# Altium integrated library LIBRAIRIE_PROJETS.IntLib: 23 symbols
Pins are listed as number, name and electrical type; pins without a type are passive.

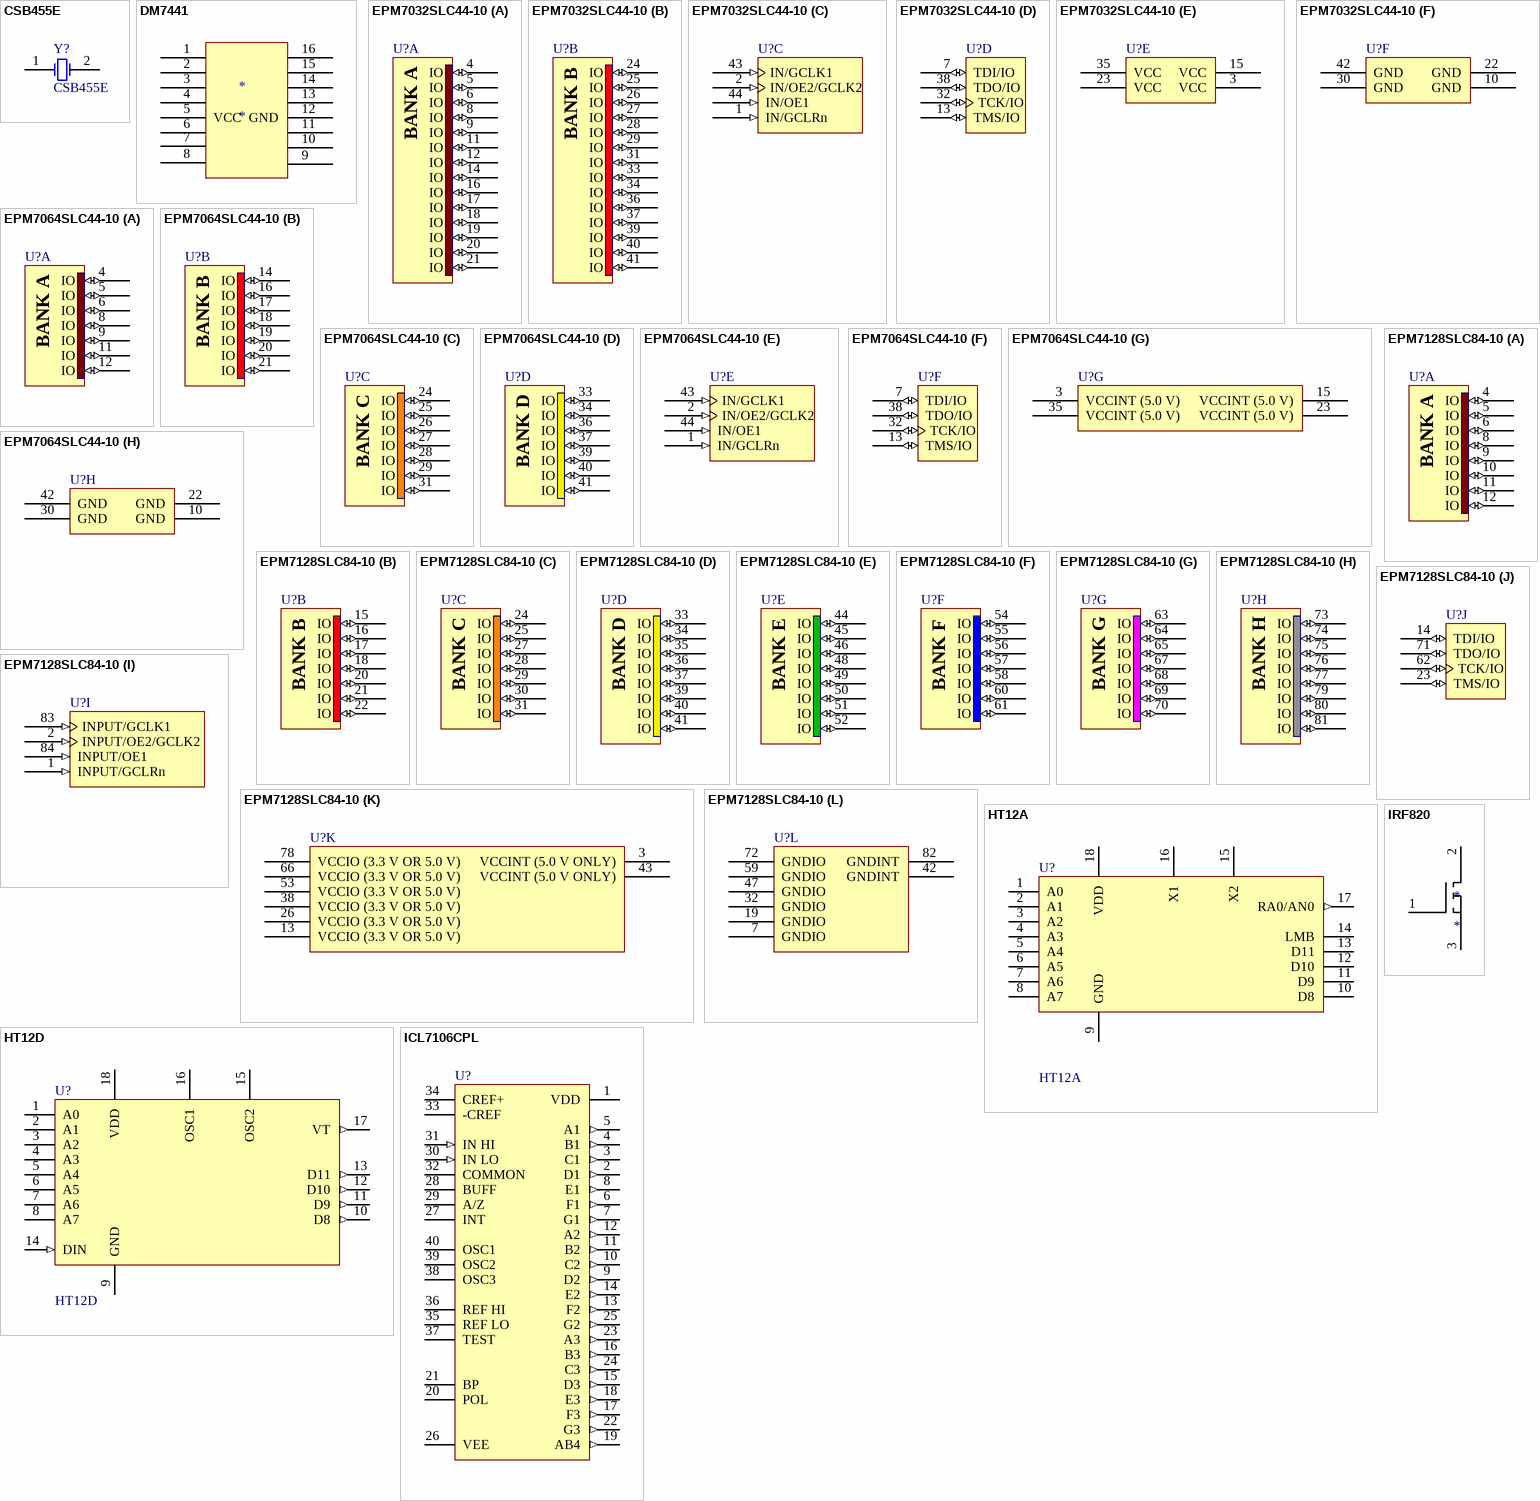
[diagram p0: symbols CSB455E to IRF820]

## CSB455E
designator Y?
Crystal Oscillator; Published: 8-Jun-2000; LatestRevisionDate: 17-Jul-2002; LatestRevisionNote: Re-released for DXP Platform.; PackageReference: R38; Publisher: Altium Limited
footprint CAPA2
simulation model XTAL (Spice Subcircuit)
pins: 1 OSC1, 2 OSC2

## DM7441
designator *
Driver Lamp NIXIES
footprint DIP16
pins: 1, 2, 3, 4, 5 VCC, 6, 7, 8, 9, 10, 11, 12 GND, 13, 14, 15, 16

## EPM7032SLC44-10
designator U?
MAX 7000S 5V In-System Programmable CPLD, 32 Macrocells, 44-Pin PLCC, Speed Grade 10, Commercial Grade; Published: 24-Nov-2000; LatestRevisionDate: 13-Apr-2006; LatestRevisionNote: IPC-7351 Footprint Added.; DatasheetVersion: ver6.7, Sep-2005; PackageVersion: ver14.3, Jul-2006; PackageReference: PLCC44; Publisher: Altium Limited; PackageDescription: 44-Pin Plastic J-Lead Chip Carrier (PLCC44); Code_JEDEC: MS-018-AC; Code_IPC: PLCC-44; ComponentLink1Description: Manufacturer Link; ComponentLink1URL: http://www.altera.com/products/devices/max7k/m7k-index.html; ComponentLink2Description: Datasheet; ComponentLink2URL: http://www.altera.com/literature/ds/m7000.pdf; ComponentLink3Description: Packaging Specification; ComponentLink3URL: http://www.altera.com/literature/ds/dspkg.pdf
3D model EPM7032S-PLCC44 (44-Pin Plastic J-Lead Chip Carrier (PLCC44))
signal-integrity model 7k (MAX 7000S)
footprint PLCC44
part A pins: 4 IO (io), 5 IO (io), 6 IO (io), 8 IO (io), 9 IO (io), 11 IO (io), 12 IO (io), 14 IO (io), 16 IO (io), 17 IO (io), 18 IO (io), 19 IO (io), 20 IO (io), 21 IO (io)
part B pins: 24 IO (io), 25 IO (io), 26 IO (io), 27 IO (io), 28 IO (io), 29 IO (io), 31 IO (io), 33 IO (io), 34 IO (io), 36 IO (io), 37 IO (io), 39 IO (io), 40 IO (io), 41 IO (io)
part C pins: 1 IN/GCLRn (in), 2 IN/OE2/GCLK2 (in), 43 IN/GCLK1 (in), 44 IN/OE1 (in)
part D pins: 7 TDI/IO (io), 13 TMS/IO (io), 32 TCK/IO (io), 38 TDO/IO (io)
part E pins: 3 VCC (power), 15 VCC (power), 23 VCC (power), 35 VCC (power)
part F pins: 10 GND (power), 22 GND (power), 30 GND (power), 42 GND (power)
part A text: BANK A
part B text: BANK B

## EPM7064SLC44-10
designator U?
MAX 7000S 5V In-System Programmable CPLD, 64 Macrocells, 44-Pin PLCC, Speed Grade 10, Commercial Grade; Published: 24-Nov-2000; LatestRevisionDate: 13-Apr-2006; LatestRevisionNote: IPC-7351 Footprint Added.; DatasheetVersion: ver6.7, Sep-2005; PackageVersion: ver14.3, Jul-2006; PackageReference: PLCC44; Publisher: Altium Limited; PackageDescription: 44-Pin Plastic J-Lead Chip Carrier (PLCC44); Code_JEDEC: MS-018-AC; Code_IPC: PLCC-44; ComponentLink1Description: Manufacturer Link; ComponentLink1URL: http://www.altera.com/products/devices/max7k/m7k-index.html; ComponentLink2Description: Datasheet; ComponentLink2URL: http://www.altera.com/literature/ds/m7000.pdf; ComponentLink3Description: Packaging Specification; ComponentLink3URL: http://www.altera.com/literature/ds/dspkg.pdf
signal-integrity model 7k (MAX 7000S)
footprint PLCC44
3D model EPM7064-PLCC44 (PCB3D Model)
part A pins: 4 IO (io), 5 IO (io), 6 IO (io), 8 IO (io), 9 IO (io), 11 IO (io), 12 IO (io)
part B pins: 14 IO (io), 16 IO (io), 17 IO (io), 18 IO (io), 19 IO (io), 20 IO (io), 21 IO (io)
part C pins: 24 IO (io), 25 IO (io), 26 IO (io), 27 IO (io), 28 IO (io), 29 IO (io), 31 IO (io)
part D pins: 33 IO (io), 34 IO (io), 36 IO (io), 37 IO (io), 39 IO (io), 40 IO (io), 41 IO (io)
part E pins: 1 IN/GCLRn (in), 2 IN/OE2/GCLK2 (in), 43 IN/GCLK1 (in), 44 IN/OE1 (in)
part F pins: 7 TDI/IO (io), 13 TMS/IO (io), 32 TCK/IO (io), 38 TDO/IO (io)
part G pins: 3 VCCINT (5.0 V) (power), 15 VCCINT (5.0 V) (power), 23 VCCINT (5.0 V) (power), 35 VCCINT (5.0 V) (power)
part H pins: 10 GND (power), 22 GND (power), 30 GND (power), 42 GND (power)
part A text: BANK A
part B text: BANK B
part C text: BANK C
part D text: BANK D

## EPM7128SLC84-10
designator U?
MAX 7000S 5V In-System Programmable CPLD, 128 Macrocells, 84-Pin PLCC, Speed Grade 10, Commercial Grade; Published: 24-Nov-2000; LatestRevisionDate: 13-Apr-2006; LatestRevisionNote: IPC-7351 Footprint Added.; DatasheetVersion: ver6.7, Sep-2005; PackageVersion: ver14.3, Jul-2006; PackageReference: PLCC84; Publisher: Altium Limited; PackageDescription: 84-Pin Plastic J-Lead Chip Carrier (PLCC84); Code_JEDEC: MS-018-AF; Code_IPC: PLCC-84; ComponentLink1Description: Manufacturer Link; ComponentLink1URL: http://www.altera.com/products/devices/max7k/m7k-index.html; ComponentLink2Description: Datasheet; ComponentLink2URL: http://www.altera.com/literature/ds/m7000.pdf; ComponentLink3Description: Packaging Specification; ComponentLink3URL: http://www.altera.com/literature/ds/dspkg.pdf
3D model EPM7128S-PLCC84 (84-Pin Plastic J-Lead Chip Carrier (PLCC84))
signal-integrity model 7k (MAX 7000S)
footprint PLCC84
part A pins: 4 IO (io), 5 IO (io), 6 IO (io), 8 IO (io), 9 IO (io), 10 IO (io), 11 IO (io), 12 IO (io)
part B pins: 15 IO (io), 16 IO (io), 17 IO (io), 18 IO (io), 20 IO (io), 21 IO (io), 22 IO (io)
part C pins: 24 IO (io), 25 IO (io), 27 IO (io), 28 IO (io), 29 IO (io), 30 IO (io), 31 IO (io)
part D pins: 33 IO (io), 34 IO (io), 35 IO (io), 36 IO (io), 37 IO (io), 39 IO (io), 40 IO (io), 41 IO (io)
part E pins: 44 IO (io), 45 IO (io), 46 IO (io), 48 IO (io), 49 IO (io), 50 IO (io), 51 IO (io), 52 IO (io)
part F pins: 54 IO (io), 55 IO (io), 56 IO (io), 57 IO (io), 58 IO (io), 60 IO (io), 61 IO (io)
part G pins: 63 IO (io), 64 IO (io), 65 IO (io), 67 IO (io), 68 IO (io), 69 IO (io), 70 IO (io)
part H pins: 73 IO (io), 74 IO (io), 75 IO (io), 76 IO (io), 77 IO (io), 79 IO (io), 80 IO (io), 81 IO (io)
part I pins: 1 INPUT/GCLRn (in), 2 INPUT/OE2/GCLK2 (in), 83 INPUT/GCLK1 (in), 84 INPUT/OE1 (in)
part J pins: 14 TDI/IO (io), 23 TMS/IO (io), 62 TCK/IO (io), 71 TDO/IO (io)
part K pins: 3 VCCINT (5.0 V ONLY) (power), 13 VCCIO (3.3 V OR 5.0 V) (power), 26 VCCIO (3.3 V OR 5.0 V) (power), 38 VCCIO (3.3 V OR 5.0 V) (power), 43 VCCINT (5.0 V ONLY) (power), 53 VCCIO (3.3 V OR 5.0 V) (power), 66 VCCIO (3.3 V OR 5.0 V) (power), 78 VCCIO (3.3 V OR 5.0 V) (power)
part L pins: 7 GNDIO (power), 19 GNDIO (power), 32 GNDIO (power), 42 GNDINT (power), 47 GNDIO (power), 59 GNDIO (power), 72 GNDIO (power), 82 GNDINT (power)
part A text: BANK A
part B text: BANK B
part C text: BANK C
part D text: BANK D
part E text: BANK E
part F text: BANK F
part G text: BANK G
part H text: BANK H

## HT12A
designator U?
Emmetteur Telecommande; Published: 11-Oct-2004; LatestRevisionDate: 04-Mar-2005; LatestRevisionNote: Stylized 3D Model Added.; DatasheetVersion: DS40044B_2004; PackageVersion: 2003; PackageReference: PDIP300-18; Publisher: Altium Limited; PackageDescription: DIP, Plastic; 18 Leads; Row Spacing 7.62 mm; Pitch 2.54 mm; Code_JEDEC: MS-001; ComponentLink1Description: Manufacturer Link; ComponentLink1URL: http://www.microchip.com; ComponentLink2Description: Datasheet; ComponentLink2URL: http://ww1.microchip.com/downloads/en/DeviceDoc/40044b.pdf; ComponentLink3Description: Packaging Specification; ComponentLink3URL: http://ww1.microchip.com/downloads/en/PackagingSpec/00049AD.pdf
footprint DIP18 (CerDIP, Window; 18 Leads; Row Spacing 7.62 mm; Pitch 2.54 mm)
pins: 1 A0, 2 A1, 3 A2, 4 A3, 5 A4 (power), 6 A5, 7 A6, 8 A7, 9 GND (power), 10 D8, 11 D9, 12 D10, 13 D11, 14 LMB (power), 15 X2, 16 X1, 17 RA0/AN0 (out), 18 VDD (power)
1 alternate drawing of the same symbol

## HT12D
designator U?
Recepteur Telecommande; Published: 11-Oct-2004; LatestRevisionDate: 04-Mar-2005; LatestRevisionNote: Stylized 3D Model Added.; DatasheetVersion: DS40044B_2004; PackageVersion: 2003; PackageReference: PDIP300-18; Publisher: Altium Limited; PackageDescription: DIP, Plastic; 18 Leads; Row Spacing 7.62 mm; Pitch 2.54 mm; Code_JEDEC: MS-001; ComponentLink1Description: Manufacturer Link; ComponentLink1URL: http://www.microchip.com; ComponentLink2Description: Datasheet; ComponentLink2URL: http://ww1.microchip.com/downloads/en/DeviceDoc/40044b.pdf; ComponentLink3Description: Packaging Specification; ComponentLink3URL: http://ww1.microchip.com/downloads/en/PackagingSpec/00049AD.pdf
footprint DIP18 (CerDIP, Window; 18 Leads; Row Spacing 7.62 mm; Pitch 2.54 mm)
pins: 1 A0, 2 A1, 3 A2, 4 A3, 5 A4 (power), 6 A5, 7 A6, 8 A7, 9 GND (power), 10 D8 (out), 11 D9 (out), 12 D10 (out), 13 D11 (out), 14 DIN (in), 15 OSC2, 16 OSC1, 17 VT (out), 18 VDD (power)
1 alternate drawing of the same symbol

## ICL7106CPL
designator U?
3½ Digit A/D Converter; Published: 16-Jan-2001; LatestRevisionDate: 06-Jun-2005; LatestRevisionNote: Stylized 3D Model Added.; DatasheetVersion: 1987; PackageVersion: RevA, 21-0044; PackageReference: PL40; Publisher: Altium Limited; PackageDescription: DIP; 40 Leads; Row Spacing 15.24 mm; Pitch 2.54 mm; ComponentLink1Description: Manufacturer Link; ComponentLink1URL: http://www.maxim-ic.com/; ComponentLink2Description: Datasheet; ComponentLink2URL: http://pdfserv.maxim-ic.com/en/ds/ICL7106-ICL7107.pdf
footprint DIP40 (DIP; 40 Leads; Row Spacing 15.24 mm; Pitch 2.54 mm)
3D model JL40A (PCB3D Model)
pins: 1 VDD (power), 2 D1 (out), 3 C1 (out), 4 B1 (out), 5 A1 (out), 6 F1 (out), 7 G1 (out), 8 E1 (out), 9 D2 (out), 10 C2 (out), 11 B2 (out), 12 A2 (out), 13 F2 (out), 14 E2 (out), 15 D3 (out), 16 B3 (out), 17 F3 (out), 18 E3 (out), 19 AB4 (out), 20 POL, 21 BP, 22 G3 (out), 23 A3 (out), 24 C3 (out), 25 G2 (out), 26 VEE (power), 27 INT, 28 BUFF, 29 A/Z, 30 IN LO (in), 31 IN HI (in), 32 COMMON, 33 -CREF, 34 CREF+, 35 REF LO, 36 REF HI, 37 TEST, 38 OSC3, 39 OSC2, 40 OSC1

## IRF820
designator *
MOSFET TYPE N
footprint TO220
pins: 1 G, 2 D, 3 S

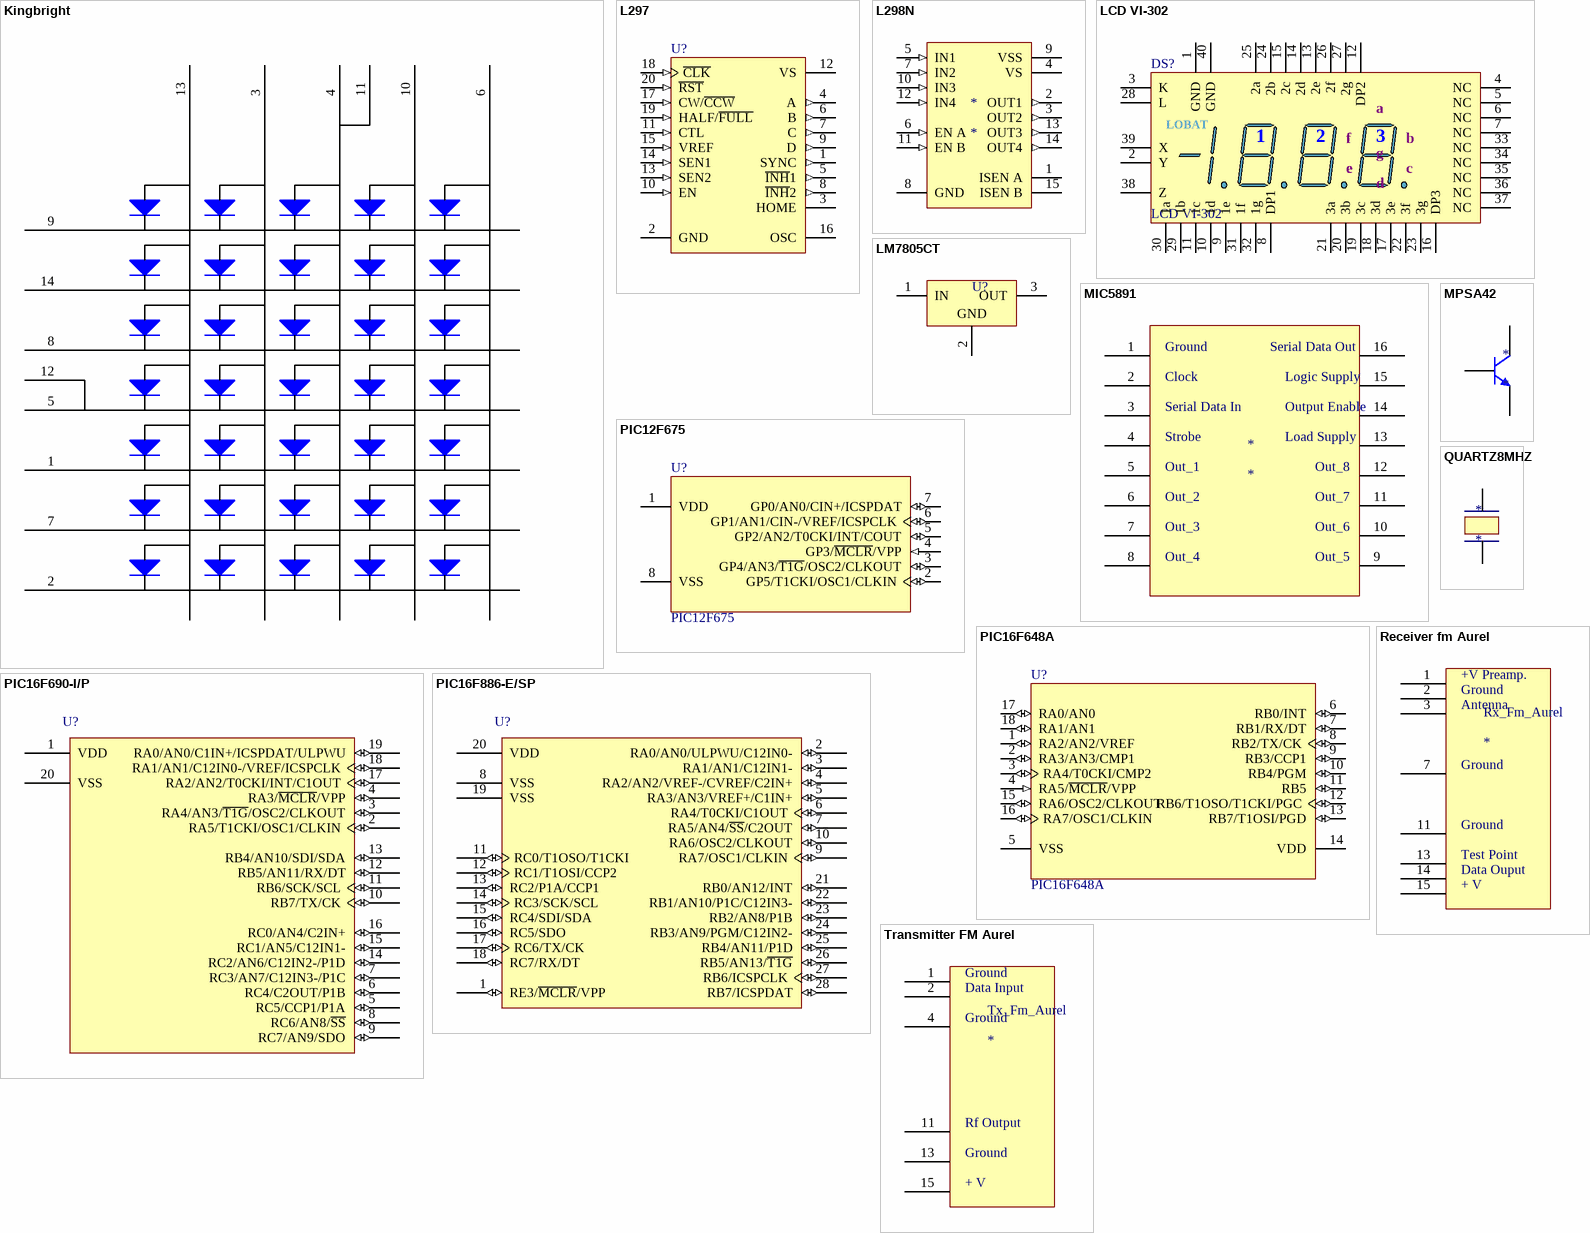
[diagram p1: symbols Kingbright to Transmitter FM Aurel]

## Kingbright
designator *
footprint kingbright
pins: 1, 2, 3, 4, 5, 6, 7, 8, 9, 10, 11, 12, 13, 14

## L297
designator U?
Stepper Motor Controller; Published: 8-Jun-2000; LatestRevisionDate: 06-Jun-2005; LatestRevisionNote: Stylized 3D Model Added.; DatasheetVersion: Aug-1996; PackageVersion: Jun-1998; PackageReference: DIP20; Publisher: Altium Limited; PackageDescription: DIP; 20 Leads; Row Spacing 7.62 mm; Pitch 2.54 mm; Code_JEDEC: MS-015-AE; ComponentLink1Description: Manufacturer Link; ComponentLink1URL: http://www.st.com/; ComponentLink2Description: Datasheet; ComponentLink2URL: http://www.st.com/stonline/products/literature/ds/1334/l297.pdf
3D model DIP20 (DIP; 20 Leads; Row Spacing 7.62 mm; Pitch 2.54 mm)
footprint DIP20
pins: 1 SYNC (out), 2 GND (power), 3 HOME (oc), 4 A (out), 5 ~{INH}1 (out), 6 B (out), 7 C (out), 8 ~{INH}2 (out), 9 D (out), 10 EN (in), 11 CTL (in), 12 VS (power), 13 SEN2 (in), 14 SEN1 (in), 15 VREF (in), 16 OSC, 17 CW/~{CCW} (in), 18 ~{CLK} (in), 19 HALF/~{FULL} (in), 20 ~{RST} (in)

## L298N
designator *
footprint Multiwatt15V (TO, Thru-Hole, Vertical, Heatsink Mounted; 15 Bent Staggered Leads; Pitch 1.27 mm)
pins: 1 ISEN A, 2 OUT1 (out), 3 OUT2 (out), 4 VS (power), 5 IN1 (in), 6 EN A (in), 7 IN2 (in), 8 GND (power), 9 VSS (power), 10 IN3 (in), 11 EN B (in), 12 IN4 (in), 13 OUT3 (out), 14 OUT4 (out), 15 ISEN B

## LCD VI-302
designator DS?
LCD 3,5 segments; MinimumIntensity: 2020 ucd; Note: IF = 10 mA; Colour: Blue; Published: 8-Jun-2000; LatestRevisionDate: 17-Dec-2003; LatestRevisionNote: Schematic revised, PCB Footprint replaced.; DatasheetDocument: 24-Sep-2002; PackageDocument: 24-Sep-2002; PackageReference: H; Publisher: Altium Limited; ComponentLink1Description: Manufacturer Link; ComponentLink1URL: http://www.agilent.com/
footprint LCD_VI302 (DIP; 40 Leads; Row Spacing 15.24 mm; Pitch 2.54 mm)
pins: 1 GND "Common Anode", 2 Y "Common Anode", 3 K "Common Anode", 4 NC "Common Anode", 5 NC "Common Anode", 6 NC "Common Anode", 7 NC "Common Anode", 8 DP1 "Cathode", 9 1e "Cathode", 10 1d "Cathode", 11 1c "Cathode", 12 DP2 "Cathode", 13 2e "Cathode", 14 2d "Cathode", 15 2c "Cathode", 16 DP3 "Cathode", 17 3e "Cathode", 18 3d "Cathode", 19 3c "Cathode", 20 3b "Cathode", 21 3a "Cathode", 22 3f "Cathode", 23 3g "Cathode", 24 2b "Cathode", 25 2a "Cathode", 26 2f "Cathode", 27 2g "Cathode", 28 L "Common Anode", 29 1b "Cathode", 30 1a "Cathode", 31 1f "Cathode", 32 1g "Cathode", 33 NC "Common Anode", 34 NC "Common Anode", 35 NC "Common Anode", 36 NC "Common Anode", 37 NC "Common Anode", 38 Z "Common Anode", 39 X "Common Anode", 40 GND "Common Anode"
1 alternate drawing of the same symbol
text: a; LOBAT; f; b; g; e; c; d

## LM7805CT
designator U?
Series 3-Terminal Positive Regulator; Note: Tab is connected to GND; Published: 15-Apr-2002; DatasheetVersion: May-1999; PackageVersion: 1995; PackageReference: T03B; Publisher: Altium Limited; PackageDescription: TO, Thru-Hole, Vertical, Heatsink Mounted; 3 In-Line Leads; Pitch 2.54 mm; ComponentLink1Description: Manufacturer Link; ComponentLink1URL: http://www.national.com/; ComponentLink2Description: Datasheet; ComponentLink2URL: http://www.national.com/ds.cgi/LM/LM7512C.pdf; ComponentLink3Description: URL Link1; ComponentLink3URL: http://www.national.com/pf/LM/LM7805C.html
footprint TO220
footprint TO220-radiateur
pins: 1 IN (power), 2 GND (power), 3 OUT (power)

## MIC5891
designator *
footprint DIP16
3D model DIP16 (PCB3D Model)
pins: 1, 2, 3, 4, 5, 6, 7, 8, 9, 10, 11, 12, 13, 14, 15, 16
text: Ground; Serial Data Out; Clock; Logic Supply; Serial Data In; Output Enable; Strobe; Load Supply; Out_1; Out_8; Out_2; Out_7; Out_3; Out_6; Out_4; Out_5

## MPSA42
designator *
Transistor type NPN
footprint TO92
pins: 1 E, 2 B, 3 C

## PIC12F675
designator U?
FLASH-Based 8-Bit CMOS Microcontroller, 10-Bit A/D, 8-Pin PDIP, Industrial Temperature; Note: Refer to data sheet (DS41190C) for details of supply voltage range under different conditions.; Published: 11-Oct-2004; DatasheetVersion: DS41190C_2003; PackageVersion: Oct-2005; PackageReference: PDIP300-8; Publisher: Altium Limited; PackageDescription: DIP, Plastic; 8 Leads; Row Spacing 7.62 mm; Pitch 2.54 mm; Code_JEDEC: MS-001; ComponentLink1Description: Manufacturer Link; ComponentLink1URL: http://www.microchip.com; ComponentLink2Description: Datasheet; ComponentLink2URL: http://ww1.microchip.com/downloads/en/DeviceDoc/41190c.pdf; ComponentLink3Description: Packaging Specification; ComponentLink3URL: http://ww1.microchip.com/downloads/en/PackagingSpec/00049AD.pdf
footprint DIP8
3D model DIP8 (PCB3D Model)
pins: 1 VDD (power), 2 GP5/T1CKI/OSC1/CLKIN (io), 3 GP4/AN3/~{T1G}/OSC2/CLKOUT (io), 4 GP3/~{MCLR}/VPP (in), 5 GP2/AN2/T0CKI/INT/COUT (io), 6 GP1/AN1/CIN-/VREF/ICSPCLK (io), 7 GP0/AN0/CIN+/ICSPDAT (io), 8 VSS (power)

## PIC16F648A
designator U?
FLASH-Based 8-Bit CMOS Microcontroller with nanoWatt Technology, 4K (x14-Bit words) FLASH, 256 Bytes SRAM, 18-Pin PDIP, 3.0 to 5.5V Supply Range, Industrial Temperature; Published: 11-Oct-2004; LatestRevisionDate: 04-Mar-2005; LatestRevisionNote: Stylized 3D Model Added.; DatasheetVersion: DS40044B_2004; PackageVersion: 2003; PackageReference: PDIP300-18; Publisher: Altium Limited; PackageDescription: DIP, Plastic; 18 Leads; Row Spacing 7.62 mm; Pitch 2.54 mm; Code_JEDEC: MS-001; ComponentLink1Description: Manufacturer Link; ComponentLink1URL: http://www.microchip.com; ComponentLink2Description: Datasheet; ComponentLink2URL: http://ww1.microchip.com/downloads/en/DeviceDoc/40044b.pdf; ComponentLink3Description: Packaging Specification; ComponentLink3URL: http://ww1.microchip.com/downloads/en/PackagingSpec/00049AD.pdf
footprint DIP18 (CerDIP, Window; 18 Leads; Row Spacing 7.62 mm; Pitch 2.54 mm)
pins: 1 RA2/AN2/VREF (io), 2 RA3/AN3/CMP1 (io), 3 RA4/T0CKI/CMP2 (io), 4 RA5/~{MCLR}/VPP (in), 5 VSS (power), 6 RB0/INT (io), 7 RB1/RX/DT (io), 8 RB2/TX/CK (io), 9 RB3/CCP1 (io), 10 RB4/PGM (io), 11 RB5 (io), 12 RB6/T1OSO/T1CKI/PGC (io), 13 RB7/T1OSI/PGD (io), 14 VDD (power), 15 RA6/OSC2/CLKOUT (io), 16 RA7/OSC1/CLKIN (io), 17 RA0/AN0 (io), 18 RA1/AN1 (io)

## PIC16F690-I/P
designator U?
Flash-Based, 8-Bit CMOS Microcontroller with nanoWatt Technology, 4K (x14-Bit words) Program Memory, 512 Bytes Data Memory, 18 I/O pins, 20-Pin PDIP, Standard VDD Range, Industrial Temperature; Published: 29-Jan-2009; DatasheetVersion: revE, Mar-2008; PackageVersion: revAW, Oct-2008; PackageReference: PDIP300-P20; Publisher: Altium Limited; PackageDescription: 20-Lead Plastic Dual In-Line (P) - 300 mil Body [PDIP]; ComponentLink1Description: Manufacturer Link; ComponentLink1URL: http://www.microchip.com; ComponentLink2Description: Datasheet; ComponentLink2URL: http://ww1.microchip.com/downloads/en/DeviceDoc/41262E.pdf; ComponentLink3Description: Packaging Specification; ComponentLink3URL: http://ww1.microchip.com/downloads/en/PackagingSpec/00049AW.pdf
footprint DIP20
3D model DIP20 (PCB3D Model)
pins: 1 VDD (power), 2 RA5/T1CKI/OSC1/CLKIN (io), 3 RA4/AN3/~{T1G}/OSC2/CLKOUT (io), 4 RA3/~{MCLR}/VPP (io), 5 RC5/CCP1/P1A (io), 6 RC4/C2OUT/P1B (io), 7 RC3/AN7/C12IN3-/P1C (io), 8 RC6/AN8/~{SS} (io), 9 RC7/AN9/SDO (io), 10 RB7/TX/CK (io), 11 RB6/SCK/SCL (io), 12 RB5/AN11/RX/DT (io), 13 RB4/AN10/SDI/SDA (io), 14 RC2/AN6/C12IN2-/P1D (io), 15 RC1/AN5/C12IN1- (io), 16 RC0/AN4/C2IN+ (io), 17 RA2/AN2/T0CKI/INT/C1OUT (io), 18 RA1/AN1/C12IN0-/VREF/ICSPCLK (io), 19 RA0/AN0/C1IN+/ICSPDAT/ULPWU (io), 20 VSS (power)

## PIC16F886-E/SP
designator U?
Flash-Based, 8-Bit CMOS Microcontroller with nanoWatt Technology, 8K (x14-Bit words) Program Memory, 624 Bytes Data Memory, 24 I/O pins, 28-Pin SPDIP, Standard VDD Range, Extended Temperature; Published: 29-Jan-2009; DatasheetVersion: revE, Jan-2008; PackageVersion: revAW, Oct-2008; PackageReference: SPDIP300-SP28; Publisher: Altium Limited; PackageDescription: 28-Lead Skinny Plastic Dual In-Line (SP) - 300 mil Body [SPDIP]; ComponentLink1Description: Manufacturer Link; ComponentLink1URL: http://www.microchip.com; ComponentLink2Description: Datasheet; ComponentLink2URL: http://ww1.microchip.com/downloads/en/DeviceDoc/41291E.pdf; ComponentLink3Description: Packaging Specification; ComponentLink3URL: http://ww1.microchip.com/downloads/en/PackagingSpec/00049AW.pdf
footprint DIP28
pins: 1 RE3/~{MCLR}/VPP (io), 2 RA0/AN0/ULPWU/C12IN0- (io), 3 RA1/AN1/C12IN1- (io), 4 RA2/AN2/VREF-/CVREF/C2IN+ (io), 5 RA3/AN3/VREF+/C1IN+ (io), 6 RA4/T0CKI/C1OUT (io), 7 RA5/AN4/~{SS}/C2OUT (io), 8 VSS (power), 9 RA7/OSC1/CLKIN (io), 10 RA6/OSC2/CLKOUT (io), 11 RC0/T1OSO/T1CKI (io), 12 RC1/T1OSI/CCP2 (io), 13 RC2/P1A/CCP1 (io), 14 RC3/SCK/SCL (io), 15 RC4/SDI/SDA (io), 16 RC5/SDO (io), 17 RC6/TX/CK (io), 18 RC7/RX/DT (io), 19 VSS (power), 20 VDD (power), 21 RB0/AN12/INT (io), 22 RB1/AN10/P1C/C12IN3- (io), 23 RB2/AN8/P1B (io), 24 RB3/AN9/PGM/C12IN2- (io), 25 RB4/AN11/P1D (io), 26 RB5/AN13/~{T1G} (io), 27 RB6/ICSPCLK (io), 28 RB7/ICSPDAT (io)

## QUARTZ8MHZ
designator *
Quartz
footprint Quartz_8MHZ
pins: 1, 2

## Receiver fm Aurel
designator Rx_Fm_Aurel
footprint Receiver FM
pins: 1, 2, 3, 7, 11, 13, 14, 15
text: +V Preamp.; Ground; Antenna; Test Point; Data Ouput; + V

## Transmitter FM Aurel
designator Tx_Fm_Aurel
footprint Transmitter FM
pins: 1, 2, 4, 11, 13, 15
text: Ground; Data Input; Rf Output; + V